# EAGLE library part ITSYBITSY_EDGE_GND (library BitsyExpander_v3.0_M4)
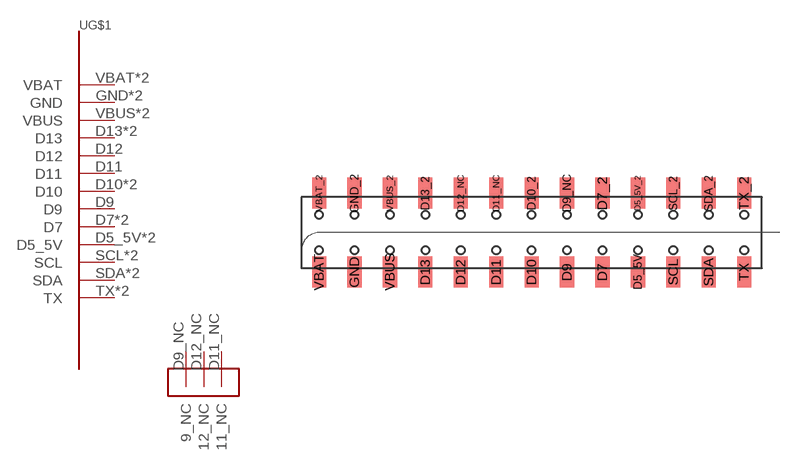
[diagram p1: symbol with the pads of ITSYBITSY_SMD_EDGE_GND; footprint ITSYBITSY_SMD_EDGE_GND]

Designator prefix -; gates G$1=ITSYBITSY_EDGE_GND G$2=ITSYBITSY_NC_PADS

## ITSYBITSY_EDGE_GND  [ITSYBITSY_SMD_EDGE_GND]
D5_5V  G$1:D5_5V
D5_5V_2  G$1:D5_5V
D7  G$1:D7
D7_2  G$1:D7
D9  G$1:D9
D9_NC  G$2:9_NC
D10  G$1:D10
D10_2  G$1:D10
D11  G$1:D11
D11_NC  G$2:11_NC
D12  G$1:D12
D12_NC  G$2:12_NC
D13  G$1:D13
D13_2  G$1:D13
GND  G$1:GND
GND_2  G$1:GND
SCL  G$1:SCL
SCL_2  G$1:SCL
SDA  G$1:SDA
SDA_2  G$1:SDA
TX  G$1:TX
TX_2  G$1:TX
VBAT  G$1:VBAT
VBAT_2  G$1:VBAT
VBUS  G$1:VBUS
VBUS_2  G$1:VBUS

## Footprint ITSYBITSY_SMD_EDGE_GND (pad centres in mm)
smd 1.02 x 2.22: D5_5V 6.35,-2.83; D5_5V_2 6.35,2.83; D7 3.81,-2.83; D7_2 3.81,2.83; D9 1.27,-2.83; D9_NC 1.27,2.83; D10 -1.27,-2.83; D10_2 -1.27,2.83; D11 -3.81,-2.83; D11_NC -3.81,2.83; D12 -6.35,-2.83; D12_NC -6.35,2.83; D13 -8.89,-2.83; D13_2 -8.89,2.83; GND -13.97,-2.83; GND_2 -13.97,2.83; SCL 8.89,-2.83; SCL_2 8.89,2.83; SDA 11.43,-2.83; SDA_2 11.43,2.83; TX 13.97,-2.83; TX_2 13.97,2.83; VBAT -16.51,-2.83; VBAT_2 -16.51,2.83; VBUS -11.43,-2.83; VBUS_2 -11.43,2.83